# Altium schematic symbol library AP3418.SchLib: 1 symbol
Pins are listed as number, name and electrical type; pins without a type are passive.

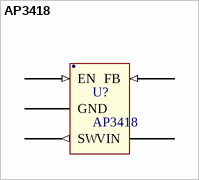
[diagram p0: symbol AP3418]

## AP3418
designator U?
DC/DC buck converter
footprint SOT23-5
pins: 1 EN (in), 2 GND (power), 3 SW (out), 4 VIN (power), 5 FB (in)
text: .